# Altium integrated library Supernova Resistors.IntLib: 277 symbols (part 1 of 3)
Pins are listed as number, name and electrical type; pins without a type are passive.

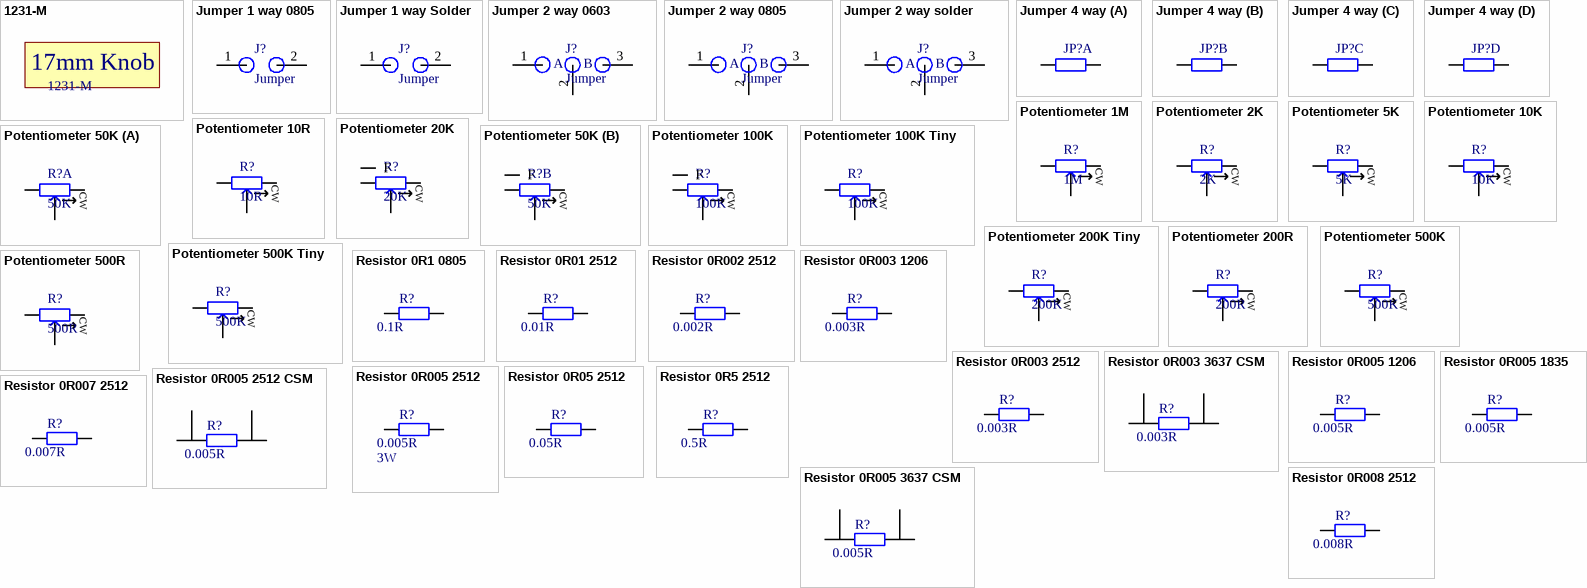
[diagram p0: symbols 1231-M to Resistor 0R008 2512]

## 1231-M
designator K?  (mechanical)
Knob for Potentiometer; Supplier 1: Digi-Key; Supplier Part Number 1: 1722-1253-ND; Supplier 2: Digi-Key; Supplier 3: Digi-Key; Supplier Part Number 2: 1722-1309-ND; Supplier Part Number 3: 1722-1249-ND
text: 17mm Knob

## Jumper 1 way 0805
designator J?, comment Jumper
Jumper 0805 1 pos; Supplier 1: Digi-Key; Supplier Part Number 1: P0.0ACT-ND; Supplier 2: Digi-Key; Supplier Part Number 2: 311-0.0CRCT-ND; Supplier 3: Digi-Key; Supplier Part Number 3: RMCF0805ZT0R00CT-ND
footprint 0805 RES 1 way jumper (Chip Resistor, 2-Leads, Body 2.05x1.25mm, IPC Medium Density)
footprint 0805 RES 1 way jumper - Placed (Chip Resistor, 2-Leads, Body 2.05x1.25mm, IPC Medium Density)
pins: 1 5, 2 5

## Jumper 1 way Solder
designator J?, comment Jumper  (no BOM)
Jumper Solder 1 pos
footprint Solder Jumper (Footprint not found)
pins: 1 5, 2 5

## Jumper 2 way 0603
designator J?, comment Jumper
Jumper 0603 2 pos; Supplier 1: Digi-Key; Supplier 2: Digi-Key; Supplier Part Number 1: 311-0.0LDCT-ND; Supplier Part Number 2: P0.0GCT-ND
footprint 0603 2 way jumper (Chip Resistor, 2-Leads, Body 1.60x0.85mm, IPC Medium Density)
footprint 0603 2 way jumper - A (Chip Resistor, 2-Leads, Body 1.60x0.85mm, IPC Medium Density)
footprint 0603 2 way jumper - B (Chip Resistor, 2-Leads, Body 1.60x0.85mm, IPC Medium Density)
pins: 1 5, 2 5, 3 5
text: A; B

## Jumper 2 way 0805
designator J?, comment Jumper
Jumper 0805 2 pos; Supplier 1: Digi-Key; Supplier Part Number 1: P0.0ACT-ND; Supplier 2: Digi-Key; Supplier Part Number 2: 311-0.0CRCT-ND
footprint 0805 RES 2 way jumper (Chip Resistor, 2-Leads, Body 2.05x1.25mm, IPC Medium Density)
footprint 0805 RES 2 way jumper - A (Chip Resistor, 2-Leads, Body 2.05x1.25mm, IPC Medium Density)
footprint 0805 RES 2 way jumper - B (Chip Resistor, 2-Leads, Body 2.05x1.25mm, IPC Medium Density)
pins: 1 5, 2 5, 3 5
text: A; B

## Jumper 2 way solder
designator J?, comment Jumper
Jumper 0603 2 pos; Supplier 1: Digi-Key; Supplier 2: Digi-Key; Supplier Part Number 1: 311-0.0LDCT-ND; Supplier Part Number 2: P0.0GCT-ND
footprint 0603 2 way jumper (Chip Resistor, 2-Leads, Body 1.60x0.85mm, IPC Medium Density)
footprint 0603 2 way jumper - A (Chip Resistor, 2-Leads, Body 1.60x0.85mm, IPC Medium Density)
footprint 0603 2 way jumper - B (Chip Resistor, 2-Leads, Body 1.60x0.85mm, IPC Medium Density)
pins: 1 5, 2 5, 3 5
text: A; B

## Jumper 4 way
designator JP?, comment 0R resistor Array of 4  (value not drawn)
Resistor 0R Array of 4; Supplier 1: Digi-Key; Supplier Part Number 1: CRA12E80.0CT-ND; Supplier 2: Mouser; Supplier Part Number 2: 71-CRA12E0830000ZTR
footprint 2012 4x RESISTOR ARRAY (Chip Array, Flat, 8-Leads, Pitch 1.27mm,  Body 5.12x3.05mm,  IPC Medium Density)
part A pins: 1, 8
part B pins: 2, 7
part C pins: 3, 6
part D pins: 4, 5

## Potentiometer 1M
designator R?, comment 1M
Potentiometer 1M Multi Turn RA; Mass_g: 0.2; Supplier 1: Mouser; Supplier 2: Digi-Key; Supplier 3: Newark; Supplier Part Number 1: 652-3224W-1-105E; Supplier Part Number 2: 3224W-1-105ECT-ND; Supplier Part Number 3: 78M8845
footprint 3224W (Footprint not found)
pins: 1, 2, 3
text: CW

## Potentiometer 2K
designator R?, comment 2K
Potentiometer 2K Single Turn; Supplier 1: Digi-Key; Supplier Part Number 1: PTV09A-4020F-B202-ND; Supplier 2: Mouser; Supplier Part Number 2: 652-PTV09A-4020FB202
footprint PTV09 (Footprint not found)
pins: 1, 2, 3
text: CW

## Potentiometer 5K
designator R?, comment 5K
Potentiometer 5K Multi Turn RA; Supplier 1: Digi-Key; Supplier 2: Mouser; Supplier Part Number 1: 804-1013-ND; Supplier Part Number 2: 71-1280G-K-5K
footprint 1280G
pins: 1, 2, 3
text: CW

## Potentiometer 10K
designator R?, comment 10K
Potentiometer 10K Multi Turn RA; Supplier 1: Digi-Key; Supplier Part Number 1: A105871-ND; Supplier 2: Digi-Key; Supplier Part Number 2: 3006P-103LF-ND
footprint 1280G
pins: 1, 2, 3
text: CW

## Potentiometer 10R
designator R?, comment 10R
Potentiometer 10R Multi Turn Small; Supplier 1: Digi-Key; Supplier 2: Mouser; Supplier Part Number 1: 3223W-1-200ECT-ND; Supplier Part Number 2: 652-3223W-1-200E
footprint 3223W (Footprint not found)
pins: 1, 2, 3
text: CW

## Potentiometer 20K
designator R?, comment 20K
Potentiometer 20K Single Turn; Supplier 1: Digi-Key; Supplier Part Number 1: PTV09A-4020F-B203-ND; Supplier 2: Mouser; Supplier Part Number 2: 652-PTV09A-4020FB203
footprint PTV09 (Footprint not found)
pins: 1, 2, 3, F
text: CW

## Potentiometer 50K
designator R?, comment 50K
Potentiometer 50K Dual Single Turn; Supplier 1: Digi-Key; Supplier Part Number 1: PTV112-4420A-B503-ND; Supplier 2: Mouser; Supplier Part Number 2: 652-PTV112-4420AB503
footprint PTV112-4 (Footprint not found)
part A pins: 1, 2, 6
part B pins: 3, 4, 5, F
part A text: CW
part B text: CW

## Potentiometer 100K
designator R?, comment 100K
Potentiometer 100K Single Turn; Supplier 1: Digi-Key; Supplier Part Number 1: PTV09A-4020F-B104-ND; Supplier 2: Mouser; Supplier Part Number 2: 652-PTV09A-4020FB104
footprint PTV09 (Footprint not found)
pins: 1, 2, 3, F
text: CW

## Potentiometer 100K Tiny
designator R?, comment 100K
Potentiometer 100K Single Turn; Supplier 1: Digi-Key; Supplier 2: Digi-Key; Supplier Part Number 1: TC33X-104ECT-ND; Supplier Part Number 2: TC33X-1-104ECT-ND
footprint TC33 (Footprint not found)
pins: 1, 2, 3
text: CW

## Potentiometer 200K Tiny
designator R?, comment 200K
Potentiometer 200K Multi Turn Small; Supplier 1: Digi-Key; Supplier 2: Mouser; Supplier Part Number 1: 3223W-1-204ECT-ND; Supplier Part Number 2: 652-3223W-1-204E
footprint 3223W (Footprint not found)
pins: 1, 2, 3
text: CW

## Potentiometer 200R
designator R?, comment 200R
Potentiometer 200R Single Turn; Supplier 1: Digi-Key; Supplier 2: Mouser; Supplier Part Number 1: 3314R-1-201ECT-ND; Supplier Part Number 2: 652-3314R-1-201E
footprint 3314R-1 (Footprint not found)
pins: 1, 2, 3
text: CW

## Potentiometer 500K
designator R?, comment 500K
Potentiometer 500K Multi Turn; Supplier 1: Digi-Key; Supplier 2: Digi-Key; Supplier Part Number 1: 987-1617-ND; Supplier Part Number 2: 987-1507-ND
footprint Model 67 (Footprint not found)
pins: 1, 2, 3
text: CW

## Potentiometer 500K Tiny
designator R?, comment 500K
Potentiometer 500K Multi Turn Small; Supplier 1: Digi-Key; Supplier 2: Arrow; Supplier Part Number 1: 3223W-1-504ECT-ND; Supplier Part Number 2: 3223W-1-504E
footprint 3223W (Footprint not found)
pins: 1, 2, 3
text: CW

## Potentiometer 500R
designator R?, comment 500R
Potentiometer 500R Multi Turn; Supplier 1: Digi-Key; Supplier Part Number 1: 987-1092-ND; Supplier 2: Digi-Key; Supplier Part Number 2: 3296W-1-501RLFCT-ND
footprint Model 67 (Footprint not found)
pins: 1, 2, 3
text: CW

## Resistor 0R1 0805
designator R?, comment 0.1R
Resistor 0R1 0805 0.25W 1%; Revision: Altium ETH 11-03.2008; Value: 0.1R; Supplier 1: Digi-Key; Supplier 2: Digi-Key; Supplier Part Number 1: 311-.10SCT-ND; Supplier Part Number 2: P19308CT-ND
footprint 0805 RES (Chip Resistor, 2-Leads, Body 2.05x1.25mm, IPC Medium Density)
pins: 1, 2
1 alternate drawing of the same symbol

## Resistor 0R01 2512
designator R?, comment 0.01R
Resistor 0.01R 2515 3W 1%; Revision: Altium ETH 11-03.2008; Value: 0.01R; Supplier 1: Digi-Key; Supplier Part Number 1: 696-1672-1-ND; Supplier 2: Digi-Key; Supplier Part Number 2: CRA2512-FZ-R010ELFCT-ND
footprint 2512 RES (Chip Resistor, 2-Leads, Body 6.30x3.20mm, IPC Medium Density)
simulation model Resistor
pins: 1, 2
1 alternate drawing of the same symbol

## Resistor 0R002 2512
designator R?, comment 0.002R
Resistor 0.002R 2512 3W 1%; Revision: Altium ETH 11-03.2008; Value: 0.002R; Supplier 1: Digi-Key; Supplier 2: Digi-Key; Supplier Part Number 1: CSS2H-2512K-2L00FCT-ND; Supplier Part Number 2: 696-1836-1-ND
footprint 2512 RES - BOURNS WIDE (copied thru PCB back to PcbLib)
simulation model Resistor
pins: 1, 2
1 alternate drawing of the same symbol

## Resistor 0R003 1206
designator R?, comment 0.003R
Resistor 0.003R 1206 1W 1%; Revision: Altium ETH 11-03.2008; Value: 0.003R; Supplier 1: Digi-Key; Supplier Part Number 1: CSNL1206FT3L00CT-ND; Supplier 2: Digi-Key; Supplier Part Number 2: RHM.003ALCT-ND
footprint 1206 RES (Chip Resistor, 2-Leads, Body 3.20x1.60mm, IPC Medium Density)
simulation model Resistor
pins: 1, 2
1 alternate drawing of the same symbol

## Resistor 0R003 2512
designator R?, comment 0.003R
Resistor 0.003R 2512 3W 1%; Revision: Altium ETH 11-03.2008; Value: 0.003R; Supplier 1: Digi-Key; Supplier Part Number 1: CRE2512-FZ-R003E-3CT-ND; Supplier 2: Digi-Key; Supplier Part Number 2: CSNL2512FT3L00CT-ND
footprint 2512 RES - BOURNS WIDE (copied thru PCB back to PcbLib)
simulation model Resistor
pins: 1, 2
1 alternate drawing of the same symbol

## Resistor 0R003 3637 CSM
designator R?, comment 0.003R
Resistor 0.003R 3637CSM 3W 0.1%; Revision: Altium ETH 11-03.2008; Value: 0.003R; Supplier 1: Digi-Key; Supplier 2: Digi-Key; Supplier Part Number 1: Y1488-.003CCT-ND; Supplier Part Number 2: Y14730R00300F9W-ND
footprint 3637 CSM Res (Footprint not found)
simulation model Resistor
pins: 1, 2, 3, 4

## Resistor 0R005 1206
designator R?, comment 0.005R
Resistor 0.005R 1206 1W 1%; Revision: Altium ETH 11-03.2008; Value: 0.005R; Supplier 1: Digi-Key; Supplier 2: Digi-Key; Supplier Part Number 1: MCS1632R005FERCT-ND; Supplier Part Number 2: CSNL1206FT5L00CT-ND
footprint 1206 RES (Chip Resistor, 2-Leads, Body 3.20x1.60mm, IPC Medium Density)
simulation model Resistor
pins: 1, 2
1 alternate drawing of the same symbol

## Resistor 0R005 1835
designator R?, comment 0.005R
Resistor 0.005R 1835 4W 0.5%; Revision: Altium ETH 11-03.2008; Value: 0.005R; Supplier 1: Digi-Key; Supplier 2: Mouser; Supplier Part Number 2: 588-FCSL90R005DER; Supplier Part Number 1: FCSL90R005DERCT-ND
footprint 1835 RES (Chip Resistor, 2-Leads, Body 4.50x8.90mm, IPC Medium Density)
simulation model Resistor
pins: 1, 2
1 alternate drawing of the same symbol

## Resistor 0R005 2512
designator R?, comment 0.005R  Power: 3W
Resistor 0.005R 2512 3W 1%; Mass_g: 0.0405; Revision: Altium ETH 11-03.2008; Value: 0.005R; Supplier 1: Digi-Key; Supplier Part Number 1: 1712-TLRP3A30CR005FTECT-ND; Supplier 2: Mouser; Supplier Part Number 2: 279-TLRP3A30CR005FTE
footprint 2512 RES - TE
simulation model Resistor
pins: 1, 2
1 alternate drawing of the same symbol

## Resistor 0R05 2512
designator R?, comment 0.05R
Resistor 0.05R 2515 3W 1%; Revision: Altium ETH 11-03.2008; Value: 0.05R; Supplier 1: Digi-Key; Supplier Part Number 1: CRA2512-FZ-R050ELFCT-ND; Supplier 2: Digi-Key; Supplier Part Number 2: 1712-TLRP3A30CR050FTECT-ND
footprint 2512 RES (Chip Resistor, 2-Leads, Body 6.30x3.20mm, IPC Medium Density)
simulation model Resistor
pins: 1, 2
1 alternate drawing of the same symbol

## Resistor 0R5 2512
designator R?, comment 0.5R
Resistor 0.5R 2512 1W 1%; Revision: Altium ETH 11-03.2008; Value: 0.5R; Supplier 1: Digi-Key; Supplier 2: Digi-Key; Supplier Part Number 1: WSLT-.5CT-ND; Supplier Part Number 2: WSLG-.50CT-ND
footprint 2512 RES (Chip Resistor, 2-Leads, Body 6.30x3.20mm, IPC Medium Density)
simulation model Resistor
pins: 1, 2
1 alternate drawing of the same symbol

## Resistor 0R005 2512 CSM
designator R?, comment 0.005R
Resistor 0.005R 2512CSM 1W 0.1%; Revision: Altium ETH 11-03.2008; Value: 0.005R; Supplier 1: Digi-Key; Supplier 2: Mouser; Supplier Part Number 1: 804-1043-1-ND; Supplier Part Number 2: 71-CSM25120R0050BST
footprint 2512 CSM RES
simulation model Resistor
pins: 1, 2, 3, 4

## Resistor 0R005 3637 CSM
designator R?, comment 0.005R
Resistor 0.005R 3637CSM 3W 0.1%; Revision: Altium ETH 11-03.2008; Value: 0.005R; Supplier 1: Digi-Key; Supplier Part Number 1: Y1488-.005BCT-ND; Supplier 2: Digi-Key; Supplier 3: Mouser; Supplier Part Number 2: Y1473-.005ACT-ND; Supplier Part Number 3: 71-CSM36370R0050BST
footprint 3637 CSM Res (Footprint not found)
simulation model Resistor
pins: 1, 2, 3, 4

## Resistor 0R007 2512
designator R?, comment 0.007R
Resistor 0.007R 2512 3W 1%; Revision: Altium ETH 11-03.2008; Value: 0.007R; Supplier 1: Digi-Key; Supplier 2: Mouser; Supplier Part Number 1: CRE2512-FZ-R007E-3CT-ND; Supplier Part Number 2: 652-CRE2512FZR007E-3
footprint 2512 RES - BOURNS WIDE (copied thru PCB back to PcbLib)
simulation model Resistor
pins: 1, 2
1 alternate drawing of the same symbol

## Resistor 0R008 2512
designator R?, comment 0.008R
Resistor 0.008R 2512 3W 1%; Revision: Altium ETH 11-03.2008; Value: 0.008R; Supplier 1: Digi-Key; Supplier 2: Digi-Key; Supplier Part Number 1: 2037-SCMM2512S3-R008FCT-ND; Supplier Part Number 2: 541-330FCT-ND
footprint 2512 RES - BOURNS WIDE (copied thru PCB back to PcbLib)
simulation model Resistor
pins: 1, 2
1 alternate drawing of the same symbol

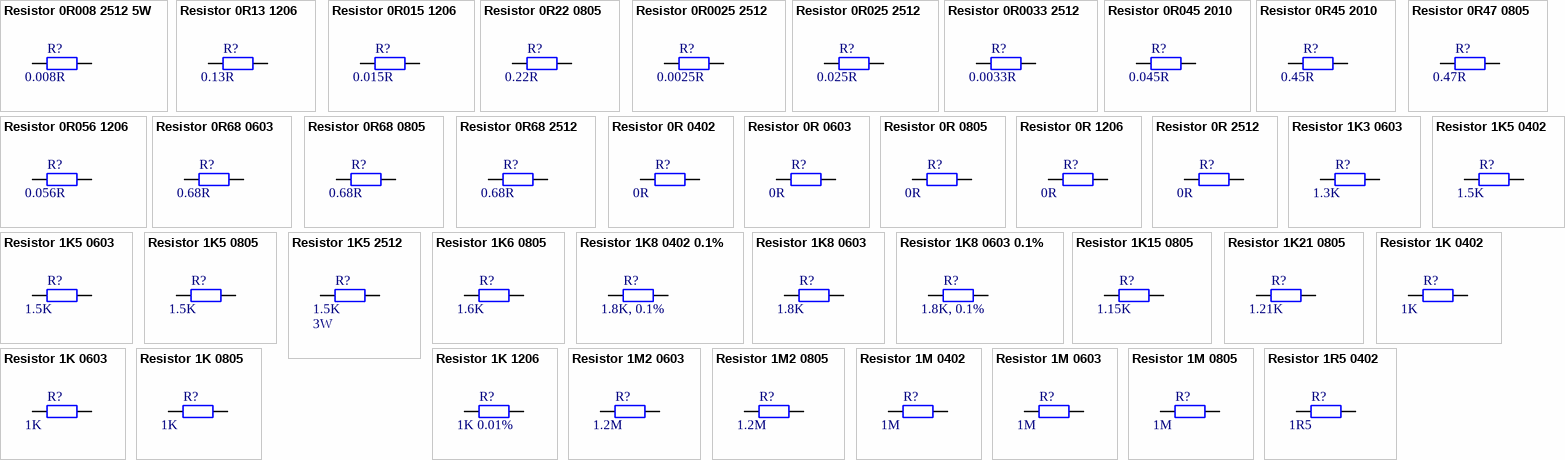
[diagram p1: symbols Resistor 0R008 2512 5W to Resistor 1R5 0402]

## Resistor 0R008 2512 5W
designator R?, comment 0.008R
Resistor 0.008R 2512 5W 1%; Mass_g: 0.0912; Revision: Altium ETH 11-03.2008; Value: 0.008R; Supplier 1: Digi-Key; Supplier Part Number 1: 2019-TLRH3APTTE8L00FCT-ND; Supplier 2: Mouser; Supplier Part Number 2: 660-TLRH3APTTE8L00F
footprint 2512 RES - BOURNS WIDE (copied thru PCB back to PcbLib)
simulation model Resistor
pins: 1, 2
1 alternate drawing of the same symbol

## Resistor 0R13 1206
designator R?, comment 0.13R
Resistor 0.13R 1206 0.5W 1%; Revision: Altium ETH 11-03.2008; Value: 0.13R; Supplier 1: Digi-Key; Supplier Part Number 1: CSR1206FTR130CT-ND; Supplier 2: Digi-Key; Supplier Part Number 2: RL16R.13FCT-ND
footprint 1206 RES (Chip Resistor, 2-Leads, Body 3.20x1.60mm, IPC Medium Density)
simulation model Resistor
pins: 1, 2
1 alternate drawing of the same symbol

## Resistor 0R015 1206
designator R?, comment 0.015R
Resistor 0.015R 1206 1W 1%; Revision: Altium ETH 11-03.2008; Value: 0.015R; Supplier 1: Digi-Key; Supplier 2: Digi-Key; Supplier 3: Digi-Key; Supplier Part Number 1: LVT12R0150FERCT-ND; Supplier Part Number 2: P0.015BVCT-ND; Supplier Part Number 3: WSLP-.015CT-ND
footprint 1206 RES (Chip Resistor, 2-Leads, Body 3.20x1.60mm, IPC Medium Density)
simulation model Resistor
pins: 1, 2
1 alternate drawing of the same symbol

## Resistor 0R22 0805
designator R?, comment 0.22R
Resistor 0.22R 0805 0.5W 1%; Revision: Altium ETH 11-03.2008; Value: 0.22R; Supplier 1: Digi-Key; Supplier Part Number 1: P19292CT-ND; Supplier 2: Digi-Key; Supplier Part Number 2: 311-0.22LUCT-ND
footprint 0805 RES (Chip Resistor, 2-Leads, Body 2.05x1.25mm, IPC Medium Density)
simulation model Resistor
pins: 1, 2
1 alternate drawing of the same symbol

## Resistor 0R0025 2512
designator R?, comment 0.0025R
Resistor 0.0025R 2512 2W 1%; Revision: Altium ETH 11-03.2008; Value: 0.0025R; Supplier 1: Digi-Key; Supplier 2: Digi-Key; Supplier Part Number 1: 541-10116-1-ND; Supplier Part Number 2: 541-10117-1-ND
footprint 2512 RES - VISHAY WIDE (Chip Resistor, 2-Leads, Body 6.35x3.15mm, IPC Medium Density)
simulation model Resistor
pins: 1, 2
1 alternate drawing of the same symbol

## Resistor 0R025 2512
designator R?, comment 0.025R
Resistor 0.025R 2515 3W 1%; Revision: Altium ETH 11-03.2008; Value: 0.025R; Supplier 1: Digi-Key; Supplier Part Number 1: CRA2512-FZ-R025ELFCT-ND; Supplier 2: Digi-Key; Supplier Part Number 2: 1712-TLRP3A30CR025FTECT-ND
footprint 2512 RES (Chip Resistor, 2-Leads, Body 6.30x3.20mm, IPC Medium Density)
simulation model Resistor
pins: 1, 2
1 alternate drawing of the same symbol

## Resistor 0R0033 2512
designator R?, comment 0.0033R
Resistor 0.0033R 2512 3W 1%; Revision: Altium ETH 11-03.2008; Value: 0.0033R; Supplier 1: Digi-Key; Supplier 2: Mouser; Supplier Part Number 1: 541-10151-1-ND; Supplier Part Number 2: 71-WSLP25123L300FEA
footprint 2512 RES - BOURNS WIDE (copied thru PCB back to PcbLib)
simulation model Resistor
pins: 1, 2
1 alternate drawing of the same symbol

## Resistor 0R045 2010
designator R?, comment 0.045R
Resistor 0.045R 2010 1W 1%; Revision: Altium ETH 11-03.2008; Value: 0.045R; Supplier 1: Digi-Key; Supplier Part Number 1: 541-10328-1-ND
footprint 2010 RES (Chip Resistor, 2-Leads, Body 5.08x2.54mm, IPC Medium Density)
simulation model Resistor
pins: 1, 2
1 alternate drawing of the same symbol

## Resistor 0R45 2010
designator R?, comment 0.45R
Resistor 0.45R 2010 1W 1%; Revision: Altium ETH 11-03.2008; Value: 0.45R; Supplier 1: Digi-Key; Supplier 2: Mouser; Supplier Part Number 1: WSLTA-.450CT-ND; Supplier Part Number 2: 71-WSLT2010R4500FEB1
footprint 2010 RES (Chip Resistor, 2-Leads, Body 5.08x2.54mm, IPC Medium Density)
simulation model Resistor
pins: 1, 2
1 alternate drawing of the same symbol

## Resistor 0R47 0805
designator R?, comment 0.47R
Resistor 0.47R 0805 0.5W 1%; Revision: Altium ETH 11-03.2008; Value: 0.47R; Supplier 1: Digi-Key; Supplier Part Number 1: 408-1564-1-ND; Supplier 2: Mouser; Supplier Part Number 2: 754-KRL1220EMR470FT5; Supplier 3: Digi-Key; Supplier Part Number 3: P19252DKR-ND
footprint 0805 RES (Chip Resistor, 2-Leads, Body 2.05x1.25mm, IPC Medium Density)
simulation model Resistor
pins: 1, 2
1 alternate drawing of the same symbol

## Resistor 0R056 1206
designator R?, comment 0.056R
Resistor 0.056R 1206 1W 1%; Revision: Altium ETH 11-03.2008; Value: 0.056R; Supplier 1: Digi-Key; Supplier Part Number 1: 541-10319-1-ND; Supplier 2: Digi-Key; Supplier Part Number 2: 408-1579-1-ND
footprint 1206 RES (Chip Resistor, 2-Leads, Body 3.20x1.60mm, IPC Medium Density)
simulation model Resistor
pins: 1, 2
1 alternate drawing of the same symbol

## Resistor 0R68 0603
designator R?, comment 0.68R
Resistor 0.68R 0603 0.1W 1%; Mass_g: 0.002; Revision: Altium ETH 11-03.2008; Value: 0.68R; Supplier 1: Digi-Key; Supplier Part Number 1: 311-.68QCT-ND; Supplier 2: Digi-Key; Supplier Part Number 2: P.68AJCT-ND
footprint 0603 RES (Chip Resistor, 2-Leads, Body 1.60x0.85mm, IPC Medium Density)
simulation model Resistor
footprint 0603 RES - DNP (Chip Resistor, 2-Leads, Body 1.60x0.85mm, IPC Medium Density)
pins: 1, 2
1 alternate drawing of the same symbol

## Resistor 0R68 0805
designator R?, comment 0.68R
Resistor 0.68R 0805 0.125W 1%; Revision: Altium ETH 11-03.2008; Value: 0.68R; Supplier 1: Digi-Key; Supplier Part Number 1: P.68DCT-ND; Supplier 2: Digi-Key; Supplier Part Number 2: P16002CT-ND
footprint 0805 RES (Chip Resistor, 2-Leads, Body 2.05x1.25mm, IPC Medium Density)
simulation model Resistor
pins: 1, 2
1 alternate drawing of the same symbol

## Resistor 0R68 2512
designator R?, comment 0.68R
Resistor 0.68R 2512 2W 1%; Revision: Altium ETH 11-03.2008; Value: 0.68R; Supplier 1: Digi-Key; Supplier Part Number 1: RCWE.68HCT-ND; Supplier 2: Digi-Key; Supplier Part Number 2: CSRN2512FKR680CT-ND
footprint 2512 RES (Chip Resistor, 2-Leads, Body 6.30x3.20mm, IPC Medium Density)
simulation model Resistor
pins: 1, 2
1 alternate drawing of the same symbol

## Resistor 0R 0402
designator R?, comment 0R
Resistor 0R 0402 0.063W; Revision: Altium ETH 11-03.2008; Value: 0R; Supplier 1: Digi-Key; Supplier Part Number 1: 311-0.0LBCT-ND; Supplier 2: Digi-Key; Supplier Part Number 2: 541-0.0YBCT-ND
footprint 0402 RES (Chip Capacitor, 2-Leads, Body 1.00x0.50mm, IPC Medium Density)
simulation model Resistor
pins: 1, 2
1 alternate drawing of the same symbol

## Resistor 0R 0603
designator R?, comment 0R
Resistor 0R 0603 0.1W; Mass_g: 0.002; Value: 0R; Supplier 1: Digi-Key; Supplier Part Number 1: P0.0GCT-ND; Supplier 2: Digi-Key; Supplier Part Number 2: 311-0.0LDCT-ND; Supplier 3: Digi-Key; Supplier Part Number 3: 541-0.0SBCT-ND; Supplier 4: Digi-Key; Supplier Part Number 4: 13-AF0603JR-070RLCT-ND
footprint 0603 RES (Chip Resistor, 2-Leads, Body 1.60x0.85mm, IPC Medium Density)
simulation model Resistor
footprint 0603 RES - DNP (Chip Resistor, 2-Leads, Body 1.60x0.85mm, IPC Medium Density)
pins: 1, 2
1 alternate drawing of the same symbol

## Resistor 0R 0805
designator R?, comment 0R
Resistor 0R 0805 0.125W; Revision: Altium ETH 11-03.2008; Value: 0R; Supplier 1: Digi-Key; Supplier Part Number 1: P0.0ACT-ND; Supplier 2: Digi-Key; Supplier Part Number 2: 311-0.0CRCT-ND
footprint 0805 RES (Chip Resistor, 2-Leads, Body 2.05x1.25mm, IPC Medium Density)
footprint 0805 RES - DNP (Chip Resistor, 2-Leads, Body 2.05x1.25mm, IPC Medium Density)
pins: 1, 2
1 alternate drawing of the same symbol

## Resistor 0R 1206
designator R?, comment 0R
Resistor 0R 1206 0.75W; Mass_g: 0.0162; Revision: Altium ETH 11-03.2008; Value: 0R; Supplier 1: Digi-Key; Supplier Part Number 1: 541-0.0UBCT-ND; Supplier 2: Digi-Key; Supplier Part Number 2: HCJ1206ZT0R00CT-ND
footprint 1206 RES (Chip Resistor, 2-Leads, Body 3.20x1.60mm, IPC Medium Density)
simulation model Resistor
footprint 1206 RES - DNP (Chip Resistor, 2-Leads, Body 3.20x1.60mm, IPC Medium Density)
pins: 1, 2
1 alternate drawing of the same symbol

## Resistor 0R 2512
designator R?, comment 0R
Resistor 0R 2512 1W; Revision: Altium ETH 11-03.2008; Value: 0R; Supplier 1: Digi-Key; Supplier Part Number 1: YAG1232CT-ND; Supplier 2: Digi-Key; Supplier 3: Digi-Key; Supplier Part Number 2: RMCF2512ZT0R00CT-ND; Supplier Part Number 3: 1276-6000-1-ND
footprint 2512 RES (Chip Resistor, 2-Leads, Body 6.30x3.20mm, IPC Medium Density)
simulation model Resistor
footprint 2512 RES - BOURNS WIDE (copied thru PCB back to PcbLib)
pins: 1, 2
1 alternate drawing of the same symbol

## Resistor 1K3 0603
designator R?, comment 1.3K
Resistor 1.3K 0603 0.1W 1%; Revision: Altium ETH 11-03.2008; Value: 1.3K; Supplier 1: Digi-Key; Supplier Part Number 1: 311-1.30KHRCT-ND; Supplier 2: Digi-Key; Supplier Part Number 2: P1.30KHCT-ND; Supplier 3: Digi-Key; Supplier Part Number 3: RMCF0603FT1K30CT-ND
footprint 0603 RES (Chip Resistor, 2-Leads, Body 1.60x0.85mm, IPC Medium Density)
simulation model Resistor
pins: 1, 2
1 alternate drawing of the same symbol

## Resistor 1K5 0402
designator R?, comment 1.5K
Resistor 1.5K 0402 0.063W 1%; Revision: Altium ETH 11-03.2008; Value: 1.5K; Supplier 1: Digi-Key; Supplier Part Number 1: 311-1.50KLRCT-ND; Supplier 2: Digi-Key; Supplier Part Number 2: P1.50KLCT-ND; Supplier 3: Digi-Key; Supplier Part Number 3: A129629CT-ND
footprint 0402 RES (Chip Capacitor, 2-Leads, Body 1.00x0.50mm, IPC Medium Density)
simulation model Resistor
pins: 1, 2
1 alternate drawing of the same symbol

## Resistor 1K5 0603
designator R?, comment 1.5K
Resistor 1.5K 0603 0.1W 1%; Revision: Altium ETH 11-03.2008; Value: 1.5K; Supplier 1: Digi-Key; Supplier Part Number 1: P1.50KHCT-ND; Supplier 2: Digi-Key; Supplier Part Number 2: 311-1.50KHRCT-ND
footprint 0603 RES (Chip Resistor, 2-Leads, Body 1.60x0.85mm, IPC Medium Density)
simulation model Resistor
pins: 1, 2
1 alternate drawing of the same symbol

## Resistor 1K5 0805
designator R?, comment 1.5K
Resistor 1.5K 0805 0.125W 1%; Revision: Altium ETH 11-03.2008; Value: 1.5K; Supplier 1: Digi-Key; Supplier Part Number 1: P1.50KCCT-ND; Supplier 2: Digi-Key; Supplier Part Number 2: 311-1.50KCRCT-ND
footprint 0805 RES (Chip Resistor, 2-Leads, Body 2.05x1.25mm, IPC Medium Density)
simulation model Resistor
pins: 1, 2
1 alternate drawing of the same symbol

## Resistor 1K5 2512
designator R?, comment 1.5K  Power: 3W
Resistor 1.5K 2512 3W 5%; Mass_g: 0.0405; Revision: Altium ETH 11-03.2008; Value: 1.5K; Supplier 1: Digi-Key; Supplier Part Number 1: A121167CT-ND; Supplier 2: Digi-Key; Supplier Part Number 2: A121168CT-ND
simulation model Resistor
footprint 2512 RES - TE
pins: 1, 2
1 alternate drawing of the same symbol

## Resistor 1K6 0805
designator R?, comment 1.6K
Resistor 1.6K 0805 0.125W 1%; Revision: Altium ETH 11-03.2008; Value: 1.6K; Supplier 1: Digi-Key; Supplier Part Number 1: 311-1.60KCRCT-ND; Supplier 2: Digi-Key; Supplier Part Number 2: P1.60KCCT-ND
footprint 0805 RES (Chip Resistor, 2-Leads, Body 2.05x1.25mm, IPC Medium Density)
simulation model Resistor
pins: 1, 2
1 alternate drawing of the same symbol

## Resistor 1K8 0402 0.1%
designator R?, comment 1.8K, 0.1%
Resistor 1.8K 0402 0.063W 1%; Revision: Altium ETH 11-03.2008; Value: 1.8K; Supplier 1: Digi-Key; Supplier Part Number 1: P1.8KDCCT-ND; Supplier 2: Digi-Key; Supplier Part Number 2: 541-2096-1-ND
footprint 0402 RES (Chip Capacitor, 2-Leads, Body 1.00x0.50mm, IPC Medium Density)
simulation model Resistor
pins: 1, 2
1 alternate drawing of the same symbol

## Resistor 1K8 0603
designator R?, comment 1.8K
Resistor 1.6K 0603 0.25W 1%; Revision: Altium ETH 11-03.2008; Value: 1.8K; Supplier 1: Digi-Key; Supplier 2: Digi-Key; Supplier Part Number 1: P1.80KHCT-ND; Supplier Part Number 2: 311-1.80KHRCT-ND
footprint 0603 RES (Chip Resistor, 2-Leads, Body 1.60x0.85mm, IPC Medium Density)
simulation model Resistor
pins: 1, 2
1 alternate drawing of the same symbol

## Resistor 1K8 0603 0.1%
designator R?, comment 1.8K, 0.1%
Resistor 1.8K 0603 0.1W 0.1%; Revision: Altium ETH 11-03.2008; Value: 1.8K; Supplier 1: Digi-Key; Supplier Part Number 1: YAG1575CT-ND; Supplier 2: Digi-Key; Supplier Part Number 2: P1.8KAYCT-ND
footprint 0603 RES (Chip Resistor, 2-Leads, Body 1.60x0.85mm, IPC Medium Density)
simulation model Resistor
pins: 1, 2
1 alternate drawing of the same symbol

## Resistor 1K15 0805
designator R?, comment 1.15K
Resistor 1.15K 0805 0.125W 1%; Revision: Altium ETH 11-03.2008; Value: 1.15K; Supplier 1: Digi-Key; Supplier 2: Digi-Key; Supplier Part Number 1: P1.15KCCT-ND; Supplier Part Number 2: RMCF0805FT1K15CT-ND
footprint 0805 RES (Chip Resistor, 2-Leads, Body 2.05x1.25mm, IPC Medium Density)
simulation model Resistor
pins: 1, 2
1 alternate drawing of the same symbol

## Resistor 1K21 0805
designator R?, comment 1.21K
Resistor 1.21K 0805 0.125W 0.1%; Revision: Altium ETH 11-03.2008; Value: 1.21K; Supplier 1: Digi-Key; Supplier 2: Digi-Key; Supplier Part Number 1: YAG4845CT-ND; Supplier Part Number 2: P1.21KDADKR-ND
footprint 0805 RES (Chip Resistor, 2-Leads, Body 2.05x1.25mm, IPC Medium Density)
simulation model Resistor
pins: 1, 2
1 alternate drawing of the same symbol

## Resistor 1K 0402
designator R?, comment 1K
Resistor 1K 0402 0.063W 1%; Revision: Altium ETH 11-03.2008; Value: 1K; Supplier 1: Digi-Key; Supplier Part Number 1: 311-1.00KLRCT-ND; Supplier 2: Digi-Key; Supplier Part Number 2: P1.00KLCT-ND; Supplier 3: Digi-Key; Supplier Part Number 3: 2019-RK73H1ERTTP1001FCT-ND
footprint 0402 RES (Chip Capacitor, 2-Leads, Body 1.00x0.50mm, IPC Medium Density)
simulation model Resistor
pins: 1, 2
1 alternate drawing of the same symbol

## Resistor 1K 0603
designator R?, comment 1K
Resistor 1K 0603 0.1W 1%; Mass_g: 0.002; Revision: Altium ETH 11-03.2008; Value: 1K; Supplier 1: Digi-Key; Supplier Part Number 1: P1.00KHCT-ND; Supplier 2: Digi-Key; Supplier Part Number 2: 311-1.00KHRCT-ND; Supplier 3: Digi-Key; Supplier Part Number 3: P1.0KBYCT-ND; Supplier 4: Digi-Key; Supplier Part Number 4: 541-2788-1-ND
footprint 0603 RES (Chip Resistor, 2-Leads, Body 1.60x0.85mm, IPC Medium Density)
simulation model Resistor
footprint 0603 RES - DNP (Chip Resistor, 2-Leads, Body 1.60x0.85mm, IPC Medium Density)
pins: 1, 2
1 alternate drawing of the same symbol

## Resistor 1K 0805
designator R?, comment 1K
Resistor 1K 0805 0.125W 1%; Revision: Altium ETH 11-03.2008; Value: 1K; Supplier 1: Digi-Key; Supplier Part Number 1: P1.00KCCT-ND; Supplier 2: Digi-Key; Supplier Part Number 2: 311-1.00KCRCT-ND
footprint 0805 RES (Chip Resistor, 2-Leads, Body 2.05x1.25mm, IPC Medium Density)
simulation model Resistor
footprint 0805 RES - DNP (Chip Resistor, 2-Leads, Body 2.05x1.25mm, IPC Medium Density)
pins: 1, 2
1 alternate drawing of the same symbol

## Resistor 1K 1206
designator R?, comment 1K 0.01%
Resistor 1K 1206 0.25W 0.01%; Revision: Altium ETH 11-03.2008; Value: 1K 0.01%; Supplier 1: Digi-Key; Supplier Part Number 1: Y1630-1.00KBCT-ND; Supplier 2: Digi-Key; Supplier 3: Digi-Key; Supplier Part Number 2: Y1625-1KCT-ND; Supplier Part Number 3: 804-1223-1-ND
footprint 1206 RES (Chip Resistor, 2-Leads, Body 3.20x1.60mm, IPC Medium Density)
simulation model Resistor
pins: 1, 2
1 alternate drawing of the same symbol

## Resistor 1M2 0603
designator R?, comment 1.2M
Resistor 1.2M 0603 0.1W 1%; Value: 1.2Meg; Revision: Altium ETH 11-03.2008; Supplier 1: Digi-Key; Supplier Part Number 1: P1.20MHDKR-ND; Supplier 2: Digi-Key; Supplier Part Number 2: 311-1.20MHRCT-ND
footprint 0603 RES (Chip Resistor, 2-Leads, Body 1.60x0.85mm, IPC Medium Density)
simulation model Resistor
pins: 1, 2
1 alternate drawing of the same symbol

## Resistor 1M2 0805
designator R?, comment 1.2M
Resistor 1.2M 0805 0.125W 1%; Value: 1.2Meg; Revision: Altium ETH 11-03.2008; Supplier 1: Digi-Key; Supplier Part Number 1: P1.20MCCT-ND; Supplier 2: Digi-Key; Supplier Part Number 2: 311-1.20MCRCT-ND
footprint 0805 RES (Chip Resistor, 2-Leads, Body 2.05x1.25mm, IPC Medium Density)
simulation model Resistor
pins: 1, 2
1 alternate drawing of the same symbol

## Resistor 1M 0402
designator R?, comment 1M
Resistor 1M 0402 0.063W 1%; Revision: Altium ETH 11-03.2008; Value: 1M; Supplier 1: Digi-Key; Supplier Part Number 1: 311-1.00MLRCT-ND; Supplier 2: Digi-Key; Supplier Part Number 2: P1.00MLCT-ND; Supplier 3: Digi-Key; Supplier Part Number 3: A129663CT-ND
footprint 0402 RES (Chip Capacitor, 2-Leads, Body 1.00x0.50mm, IPC Medium Density)
simulation model Resistor
pins: 1, 2
1 alternate drawing of the same symbol

## Resistor 1M 0603
designator R?, comment 1M
Resistor 1M 0603 0.125W 1%; Value: 1Meg; Mass_g: 0.002; Revision: Altium ETH 11-03.2008; Supplier 1: Digi-Key; Supplier Part Number 1: MCT0603-1.00M-CFCT-ND; Supplier 2: Digi-Key; Supplier Part Number 2: P1.00MHCT-ND
footprint 0603 RES (Chip Resistor, 2-Leads, Body 1.60x0.85mm, IPC Medium Density)
simulation model Resistor
pins: 1, 2
1 alternate drawing of the same symbol

## Resistor 1M 0805
designator R?, comment 1M
Resistor 1M 0805 0.125W 1%; Mass_g: 0.0055; Revision: Altium ETH 11-03.2008; Value: 1M; Supplier 1: Digi-Key; Supplier Part Number 1: 311-1.00MCRCT-ND; Supplier 2: Digi-Key; Supplier Part Number 2: P16921CT-ND
footprint 0805 RES (Chip Resistor, 2-Leads, Body 2.05x1.25mm, IPC Medium Density)
simulation model Resistor
pins: 1, 2
1 alternate drawing of the same symbol

## Resistor 1R5 0402
designator R?, comment 1R5
Resistor 1R5 0402 0.25W 1%; Mass_g: 0.00065; Revision: Altium ETH 11-03.2008; Value: 1R5; Supplier 1: Digi-Key; Supplier Part Number 1: 2019-SG73P1EWTTP1R50FCT-ND; Supplier 2: Mouser; Supplier Part Number 2: 660-SG73P1EWTTP1R50F
footprint 0402 RES (Chip Capacitor, 2-Leads, Body 1.00x0.50mm, IPC Medium Density)
simulation model Resistor
pins: 1, 2
1 alternate drawing of the same symbol

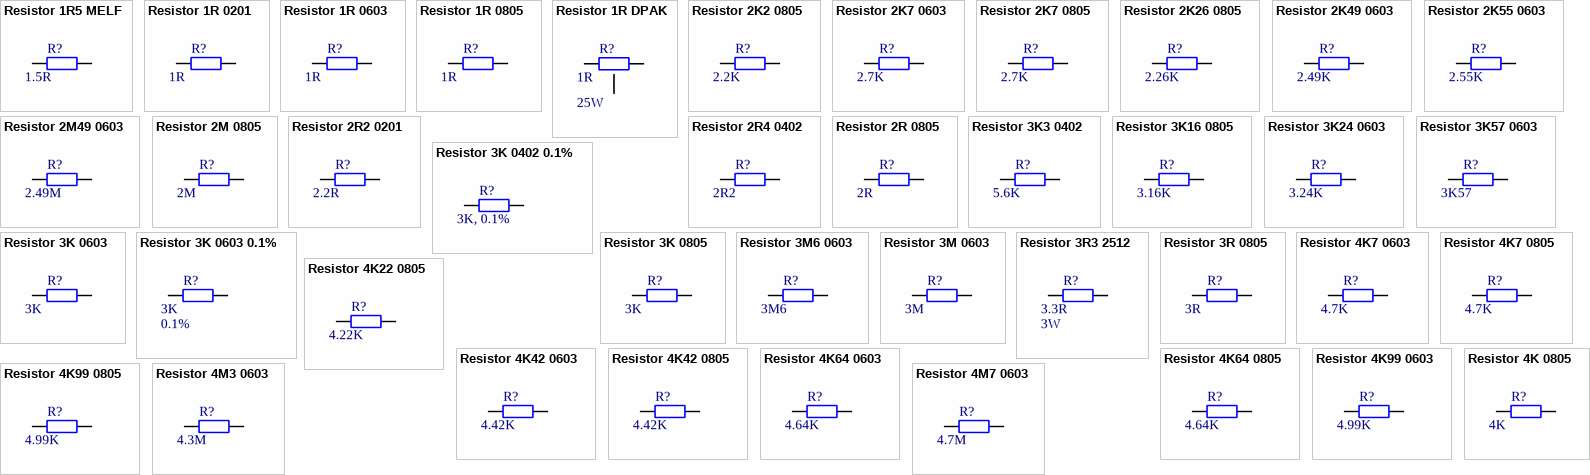
[diagram p2: symbols Resistor 1R5 MELF to Resistor 4M7 0603]

## Resistor 1R5 MELF
designator R?, comment 1.5R
Resistor 1.5R MELF 0.4W 1%; Revision: Altium ETH 11-03.2008; Value: 1.5R; Supplier 1: Digi-Key; Supplier 2: Digi-Key; Supplier Part Number 1: 749-1169-1-ND; Supplier Part Number 2: MLFA25FTC1R50CT-ND
footprint MELF 0204 (MELF Resistor, 2-Leads, Body 3.50x1.40mm, IPC Medium Density)
simulation model Resistor
pins: 1, 2
1 alternate drawing of the same symbol

## Resistor 1R 0201
designator R?, comment 1R
Resistor 1R 0201 0.05W 1%; Revision: Altium ETH 11-03.2008; Value: 1R; Supplier 1: Digi-Key; Supplier 2: Digi-Key; Supplier Part Number 1: YAG3368CT-ND; Supplier Part Number 2: RMCF0201FT1R00CT-ND
footprint 0201 RES (Chip Resistor, 2-Leads, Body 0.60x0.30mm, IPC Medium Density)
simulation model Resistor
pins: 1, 2
1 alternate drawing of the same symbol

## Resistor 1R 0603
designator R?, comment 1R
Resistor 1R 0603 0.1W 1%; Revision: Altium ETH 11-03.2008; Value: 1R; Supplier 1: Digi-Key; Supplier Part Number 1: P1.0AJCT-ND; Supplier 2: Digi-Key; Supplier Part Number 2: YAG3574CT-ND
footprint 0603 RES (Chip Resistor, 2-Leads, Body 1.60x0.85mm, IPC Medium Density)
simulation model Resistor
pins: 1, 2
1 alternate drawing of the same symbol

## Resistor 1R 0805
designator R?, comment 1R
Resistor 1R 0805 0.25W 1%; Revision: Altium ETH 11-03.2008; Value: 1R; Supplier 1: Digi-Key; Supplier Part Number 1: P1.0BHCT-ND; Supplier 2: Digi-Key; Supplier Part Number 2: 311-1.00CRCT-ND
footprint 0805 RES (Chip Resistor, 2-Leads, Body 2.05x1.25mm, IPC Medium Density)
simulation model Resistor
pins: 1, 2
1 alternate drawing of the same symbol

## Resistor 1R DPAK
designator R?, comment 1R  Power: 25W
Resistor 1R DPAK 25W 5%; Revision: Altium ETH 11-03.2008; Value: 1R; Supplier 1: Digi-Key; Supplier Part Number 1: PWR163S-25-1R00J-ND; Supplier 2: Digi-Key; Supplier Part Number 2: 696-1274-1-ND
footprint DPAK - Bourns (D2-PAK/TO-263-AB; 3 Leads (1 Cropped); Body 15.5 (inc. leads) x 10.5 mm (LxW max))
simulation model Resistor
pins: 1, 2, 3

## Resistor 2K2 0805
designator R?, comment 2.2K
Resistor 2.2K 0805 0.125W 1%; Revision: Altium ETH 11-03.2008; Value: 2.2K; Supplier 1: Digi-Key; Supplier Part Number 1: 311-2.20KCRCT-ND; Supplier 2: Digi-Key; Supplier Part Number 2: P2.20KCCT-ND; Supplier 3: Digi-Key; Supplier Part Number 3: A129753CT-ND
footprint 0805 RES (Chip Resistor, 2-Leads, Body 2.05x1.25mm, IPC Medium Density)
simulation model Resistor
pins: 1, 2
1 alternate drawing of the same symbol

## Resistor 2K7 0603
designator R?, comment 2.7K
Resistor 2.7K 0603 0.1W 0.1%; Revision: Altium ETH 11-03.2008; Value: 2.7K; Supplier 1: Digi-Key; Supplier Part Number 1: P2.7KDBCT-ND; Supplier 2: Digi-Key; Supplier Part Number 2: P20019CT-ND; Supplier 3: Digi-Key; Supplier Part Number 3: A129693CT-ND; Supplier 4: Digi-Key; Supplier Part Number 4: YAG3589CT-ND
footprint 0603 RES (Chip Resistor, 2-Leads, Body 1.60x0.85mm, IPC Medium Density)
simulation model Resistor
pins: 1, 2
1 alternate drawing of the same symbol

## Resistor 2K7 0805
designator R?, comment 2.7K
Resistor 2.7K 0805 0.125W 1%; Revision: Altium ETH 11-03.2008; Value: 2.7K; Supplier 1: Digi-Key; Supplier 2: Digi-Key; Supplier Part Number 2: P2.70KCCT-ND; Supplier Part Number 1: 311-2.70KCRCT-ND
footprint 0805 RES (Chip Resistor, 2-Leads, Body 2.05x1.25mm, IPC Medium Density)
simulation model Resistor
pins: 1, 2
1 alternate drawing of the same symbol

## Resistor 2K26 0805
designator R?, comment 2.26K
Resistor 2.26K 0805 0.125W 0.1%; Revision: Altium ETH 11-03.2008; Value: 2.26K; Supplier 1: Digi-Key; Supplier Part Number 1: P2.26KDACT-ND; Supplier 2: Digi-Key; Supplier Part Number 2: P20632CT-ND
footprint 0805 RES (Chip Resistor, 2-Leads, Body 2.05x1.25mm, IPC Medium Density)
simulation model Resistor
pins: 1, 2
1 alternate drawing of the same symbol

## Resistor 2K49 0603
designator R?, comment 2.49K
Resistor 2.49K 0603 0.1W 0.1%; Revision: Altium ETH 11-03.2008; Value: 2.49K; Supplier 1: Digi-Key; Supplier Part Number 1: P2.49KDBCT-ND; Supplier 2: Digi-Key; Supplier Part Number 2: YAG1618CT-ND
footprint 0603 RES (Chip Resistor, 2-Leads, Body 1.60x0.85mm, IPC Medium Density)
simulation model Resistor
pins: 1, 2
1 alternate drawing of the same symbol

## Resistor 2K55 0603
designator R?, comment 2.55K
Resistor 2.55K 0603 0.1W 0.1%; Revision: Altium ETH 11-03.2008; Value: 2.55K; Supplier 1: Digi-Key; Supplier Part Number 1: P2.55KDBCT-ND; Supplier 2: Digi-Key; Supplier Part Number 2: YAG1620CT-ND
footprint 0603 RES (Chip Resistor, 2-Leads, Body 1.60x0.85mm, IPC Medium Density)
simulation model Resistor
pins: 1, 2
1 alternate drawing of the same symbol

## Resistor 2M49 0603
designator R?, comment 2.49M
Resistor 2.49M 0603 0.1W 0.1%; Revision: Altium ETH 11-03.2008; Value: 2.49M; Supplier 1: Digi-Key; Supplier 2: Digi-Key; Supplier Part Number 1: 541-2.49MCCT-ND; Supplier Part Number 2: 541-2.49MHCT-ND
footprint 0603 RES (Chip Resistor, 2-Leads, Body 1.60x0.85mm, IPC Medium Density)
simulation model Resistor
pins: 1, 2
1 alternate drawing of the same symbol

## Resistor 2M 0805
designator R?, comment 2M
Resistor 2M 0805 0.125W 1%; Revision: Altium ETH 11-03.2008; Value: 2M; Supplier 1: Digi-Key; Supplier 2: Digi-Key; Supplier Part Number 2: P2.00MCCT-ND; Supplier Part Number 1: 541-4129-1-ND
footprint 0805 RES (Chip Resistor, 2-Leads, Body 2.05x1.25mm, IPC Medium Density)
simulation model Resistor
pins: 1, 2
1 alternate drawing of the same symbol

## Resistor 2R2 0201
designator R?, comment 2.2R
Resistor 2.2R 0201 0.05W 5%; Revision: Altium ETH 11-03.2008; Value: 2.2R; Supplier 1: Digi-Key; Supplier 2: Digi-Key; Supplier Part Number 1: YAG2886CT-ND; Supplier Part Number 2: P123294CT-ND
footprint 0201 RES (Chip Resistor, 2-Leads, Body 0.60x0.30mm, IPC Medium Density)
simulation model Resistor
pins: 1, 2
1 alternate drawing of the same symbol

## Resistor 2R4 0402
designator R?, comment 2R2
Resistor 2R4 0402 0.2W 1%; Mass_g: 0.00065; Revision: Altium ETH 11-03.2008; Value: 2R2; Supplier 1: Digi-Key; Supplier Part Number 1: 541-2.40YCT-ND; Supplier 2: Mouser; Supplier Part Number 2: 71-CRCW04022R40FKEDH
footprint 0402 RES (Chip Capacitor, 2-Leads, Body 1.00x0.50mm, IPC Medium Density)
simulation model Resistor
pins: 1, 2
1 alternate drawing of the same symbol

## Resistor 2R 0805
designator R?, comment 2R
Resistor 2R 0805 0.125W 1%; Revision: Altium ETH 11-03.2008; Value: 2R; Supplier 1: Digi-Key; Supplier Part Number 1: 311-2.00CRCT-ND; Supplier 2: Digi-Key; Supplier Part Number 2: P19275CT-ND
footprint 0805 RES (Chip Resistor, 2-Leads, Body 2.05x1.25mm, IPC Medium Density)
simulation model Resistor
pins: 1, 2
1 alternate drawing of the same symbol

## Resistor 3K3 0402
designator R?, comment 5.6K
Resistor 3.3K 0402 0.063W 1%; Revision: Altium ETH 11-03.2008; Value: 5.6K; Supplier 1: Digi-Key; Supplier 2: Digi-Key; Supplier Part Number 1: P3.30KLCT-ND; Supplier Part Number 2: 311-3.30KLRCT-ND
footprint 0402 RES (Chip Capacitor, 2-Leads, Body 1.00x0.50mm, IPC Medium Density)
simulation model Resistor
pins: 1, 2
1 alternate drawing of the same symbol

## Resistor 3K16 0805
designator R?, comment 3.16K
Resistor 3.16K 0805 0.1W 0.1%; Revision: Altium ETH 11-03.2008; Value: 3.16K; Supplier 1: Digi-Key; Supplier 2: Digi-Key; Supplier Part Number 1: P3.16KDACT-ND; Supplier Part Number 2: YAG4890CT-ND
footprint 0805 RES (Chip Resistor, 2-Leads, Body 2.05x1.25mm, IPC Medium Density)
simulation model Resistor
pins: 1, 2
1 alternate drawing of the same symbol

## Resistor 3K24 0603
designator R?, comment 3.24K
Resistor 3.24K 0603 0.1W 1%; Revision: Altium ETH 11-03.2008; Value: 3.24K; Supplier 1: Digi-Key; Supplier Part Number 1: P3.24KHCT-ND; Supplier 2: Digi-Key; Supplier Part Number 2: 541-3.24KHCT-ND
footprint 0603 RES (Chip Resistor, 2-Leads, Body 1.60x0.85mm, IPC Medium Density)
simulation model Resistor
pins: 1, 2
1 alternate drawing of the same symbol

## Resistor 3K57 0603
designator R?, comment 3K57
Resistor 3K57 0603 0.1W 1%; Mass_g: 0.002; Revision: Altium ETH 11-03.2008; Value: 3K57; Supplier 1: Mouser; Supplier 2: Digi-Key; Supplier Part Number 2: P3.57KDBCT-ND; Supplier Part Number 1: 71-CRCW0603-3.57K-E3
footprint 0603 RES (Chip Resistor, 2-Leads, Body 1.60x0.85mm, IPC Medium Density)
simulation model Resistor
footprint 0603 RES - DNP (Chip Resistor, 2-Leads, Body 1.60x0.85mm, IPC Medium Density)
pins: 1, 2
1 alternate drawing of the same symbol

## Resistor 3K 0402 0.1%
designator R?, comment 3K, 0.1%
Resistor 3K 0402 0.063W 0.1%; Revision: Altium ETH 11-03.2008; Value: 3K; Supplier 1: Digi-Key; Supplier Part Number 1: P3.0KDCCT-ND; Supplier 2: Digi-Key; Supplier Part Number 2: 541-9842-1-ND
footprint 0402 RES (Chip Capacitor, 2-Leads, Body 1.00x0.50mm, IPC Medium Density)
simulation model Resistor
pins: 1, 2
1 alternate drawing of the same symbol

## Resistor 3K 0603
designator R?, comment 3K
Resistor 3K 0603 0.1W 1%; Mass_g: 0.002; Revision: Altium ETH 11-03.2008; Value: 3K; Supplier 1: Digi-Key; Supplier Part Number 1: P3.00KHCT-ND; Supplier 2: Digi-Key; Supplier Part Number 2: 311-3.00KHRCT-ND; Supplier 3: Digi-Key; Supplier Part Number 3: P3KBYCT-ND
footprint 0603 RES (Chip Resistor, 2-Leads, Body 1.60x0.85mm, IPC Medium Density)
simulation model Resistor
pins: 1, 2
1 alternate drawing of the same symbol

## Resistor 3K 0603 0.1%
designator R?, comment 3K  Tolerance: 0.1%
Resistor 3K 0603 0.1W 1%; Mass_g: 0.002; Revision: Altium ETH 11-03.2008; Value: 3K; Supplier 1: Digi-Key; Supplier Part Number 1: RG16P3.0KBCT-ND; Supplier 2: Digi-Key; Supplier Part Number 2: 541-2019-1-ND
footprint 0603 RES (Chip Resistor, 2-Leads, Body 1.60x0.85mm, IPC Medium Density)
simulation model Resistor
pins: 1, 2
1 alternate drawing of the same symbol

## Resistor 3K 0805
designator R?, comment 3K
Resistor 3K 0805 0.125W 1%; Revision: Altium ETH 11-03.2008; Value: 3K; Supplier 1: Digi-Key; Supplier Part Number 1: P3.0KCCT-ND; Supplier 2: Digi-Key; Supplier Part Number 2: 311-3.00KCRCT-ND
footprint 0805 RES (Chip Resistor, 2-Leads, Body 2.05x1.25mm, IPC Medium Density)
simulation model Resistor
pins: 1, 2
1 alternate drawing of the same symbol

## Resistor 3M6 0603
designator R?, comment 3M6
Resistor 3.6M 0603 0.1W 1%; Value: 3.6Meg; Revision: Altium ETH 11-03.2008; Supplier 1: Digi-Key; Supplier Part Number 1: RMCF0603FT3M60CT-ND; Supplier 2: Digi-Key; Supplier Part Number 2: RHM3.6MAYCT-ND
footprint 0603 RES (Chip Resistor, 2-Leads, Body 1.60x0.85mm, IPC Medium Density)
simulation model Resistor
pins: 1, 2
1 alternate drawing of the same symbol

## Resistor 3M 0603
designator R?, comment 3M
Resistor 3M 0603 0.1W 1%; Value: 3Meg; Mass_g: 0.002; Revision: Altium ETH 11-03.2008; Supplier 1: Digi-Key; Supplier Part Number 1: 541-3.00MHCT-ND; Supplier 2: Digi-Key; Supplier Part Number 2: RMCF0603FT3M00CT-ND; Supplier 3: Digi-Key; Supplier Part Number 3: 541-RCS06033M00FKEACT-ND
footprint 0603 RES (Chip Resistor, 2-Leads, Body 1.60x0.85mm, IPC Medium Density)
simulation model Resistor
pins: 1, 2
1 alternate drawing of the same symbol

## Resistor 3R3 2512
designator R?, comment 3.3R  Power: 3W
Resistor 3.3RK 2512 3W 5%; Mass_g: 0.0405; Revision: Altium ETH 11-03.2008; Value: 3.3R; Supplier 1: RSComponents; Supplier Part Number 1: 8711020P; Supplier 2: Digi-Key; Supplier Part Number 2: A121247CT-ND; Supplier 3: Mouser; Supplier Part Number 3: 279-35223R3JT
simulation model Resistor
footprint 2512 RES - TE
pins: 1, 2
1 alternate drawing of the same symbol

## Resistor 3R 0805
designator R?, comment 3R
Resistor 3R 0805 0.125W 0.5%; Revision: Altium ETH 11-03.2008; Value: 3R; Supplier 1: Digi-Key; Supplier 2: Digi-Key; Supplier Part Number 1: YAG5007CT-ND; Supplier Part Number 2: RNCF0805DTE3R00CT-ND
footprint 0805 RES (Chip Resistor, 2-Leads, Body 2.05x1.25mm, IPC Medium Density)
simulation model Resistor
pins: 1, 2
1 alternate drawing of the same symbol

## Resistor 4K7 0603
designator R?, comment 4.7K
Resistor 4.7K 0603 0.1W 1%; Mass_g: 0.002; Revision: Altium ETH 11-03.2008; Value: 4.7K; Supplier 1: Digi-Key; Supplier Part Number 1: P4.70KHCT-ND; Supplier 2: Digi-Key; Supplier Part Number 2: 311-4.70KHRCT-ND
footprint 0603 RES (Chip Resistor, 2-Leads, Body 1.60x0.85mm, IPC Medium Density)
simulation model Resistor
pins: 1, 2
1 alternate drawing of the same symbol

## Resistor 4K7 0805
designator R?, comment 4.7K
Resistor 4.7K 0805 0.125W 1%; Revision: Altium ETH 11-03.2008; Value: 4.7K; Supplier 1: Digi-Key; Supplier Part Number 1: 311-4.70KCRCT-ND; Supplier 2: Digi-Key; Supplier Part Number 2: YAG1325CT-ND; Supplier 3: Digi-Key; Supplier Part Number 3: A129757CT-ND; Supplier 4: Digi-Key; Supplier Part Number 4: 541-CRCW08054K70FKEBCT-ND
footprint 0805 RES (Chip Resistor, 2-Leads, Body 2.05x1.25mm, IPC Medium Density)
simulation model Resistor
pins: 1, 2
1 alternate drawing of the same symbol

## Resistor 4K22 0805
designator R?, comment 4.22K
Resistor 4.22K 0805 0.1W 0.1%; Revision: Altium ETH 11-03.2008; Value: 4.22K; Supplier 1: Digi-Key; Supplier 2: Digi-Key; Supplier Part Number 2: 541-4.22KCCT-ND; Supplier Part Number 1: 311-4.22KCRCT-ND
footprint 0805 RES (Chip Resistor, 2-Leads, Body 2.05x1.25mm, IPC Medium Density)
simulation model Resistor
pins: 1, 2
1 alternate drawing of the same symbol

## Resistor 4K42 0603
designator R?, comment 4.42K
Resistor 4.42K 0603 0.1W 0.1%; Revision: Altium ETH 11-03.2008; Value: 4.42K; Supplier 1: Digi-Key; Supplier Part Number 1: YAG4569CT-ND; Supplier 2: Digi-Key; Supplier Part Number 2: P20045CT-ND
footprint 0603 RES (Chip Resistor, 2-Leads, Body 1.60x0.85mm, IPC Medium Density)
simulation model Resistor
pins: 1, 2
1 alternate drawing of the same symbol

## Resistor 4K42 0805
designator R?, comment 4.42K
Resistor 4.42K 0805 0.1W 0.1%; Revision: Altium ETH 11-03.2008; Value: 4.42K; Supplier 1: Digi-Key; Supplier 2: Digi-Key; Supplier Part Number 1: P4.42KDACT-ND; Supplier Part Number 2: YAG1917CT-ND
footprint 0805 RES (Chip Resistor, 2-Leads, Body 2.05x1.25mm, IPC Medium Density)
simulation model Resistor
pins: 1, 2
1 alternate drawing of the same symbol

## Resistor 4K64 0603
designator R?, comment 4.64K
Resistor 4.64K 0603 0.1W 0.1%; Revision: Altium ETH 11-03.2008; Value: 4.64K; Supplier 1: Digi-Key; Supplier Part Number 1: P4.64KDBCT-ND; Supplier 2: Digi-Key; Supplier Part Number 2: YAG1675CT-ND
footprint 0603 RES (Chip Resistor, 2-Leads, Body 1.60x0.85mm, IPC Medium Density)
simulation model Resistor
pins: 1, 2
1 alternate drawing of the same symbol

## Resistor 4K64 0805
designator R?, comment 4.64K
Resistor 4.64K 0805 0.1W 0.1%; Revision: Altium ETH 11-03.2008; Value: 4.64K; Supplier 1: Digi-Key; Supplier 2: Digi-Key; Supplier Part Number 1: P4.64KCCT-ND; Supplier Part Number 2: 311-4.64KCRCT-ND
footprint 0805 RES (Chip Resistor, 2-Leads, Body 2.05x1.25mm, IPC Medium Density)
simulation model Resistor
pins: 1, 2
1 alternate drawing of the same symbol

## Resistor 4K99 0603
designator R?, comment 4.99K
Resistor 4.99K 0603 0.1W 0.1%; Revision: Altium ETH 11-03.2008; Value: 4.99K; Supplier 1: Digi-Key; Supplier Part Number 1: P4.99KDBCT-ND; Supplier 2: Digi-Key; Supplier Part Number 2: YAG4748CT-ND
footprint 0603 RES (Chip Resistor, 2-Leads, Body 1.60x0.85mm, IPC Medium Density)
simulation model Resistor
pins: 1, 2
1 alternate drawing of the same symbol

## Resistor 4K99 0805
designator R?, comment 4.99K
Resistor 4.99K 0805 0.125W 0.1%; Revision: Altium ETH 11-03.2008; Value: 4.99K; Supplier 1: Digi-Key; Supplier Part Number 1: P4.99KDACT-ND; Supplier 2: Digi-Key; Supplier Part Number 2: YAG4991CT-ND
footprint 0805 RES (Chip Resistor, 2-Leads, Body 2.05x1.25mm, IPC Medium Density)
simulation model Resistor
pins: 1, 2
1 alternate drawing of the same symbol

## Resistor 4K 0805
designator R?, comment 4K
Resistor 4K 0805 0.125W 1%; Revision: Altium ETH 11-03.2008; Value: 4K; Supplier 1: Digi-Key; Supplier 2: Mouser; Supplier Part Number 1: 541-CRCW08054K00FKTACT-ND; Supplier Part Number 2: 71-CRCW0805-4K
simulation model Resistor
footprint 0805 RES (Chip Resistor, 2-Leads, Body 2.05x1.25mm, IPC Medium Density)
pins: 1, 2
1 alternate drawing of the same symbol

## Resistor 4M3 0603
designator R?, comment 4.3M
Resistor 4.3M 0603 0.1W 1%; Revision: Altium ETH 11-03.2008; Value: 4.3M; Supplier 1: Digi-Key; Supplier 2: Digi-Key; Supplier Part Number 1: RMCF0603FT4M30CT-ND; Supplier Part Number 2: 541-4.30MHCT-ND
footprint 0603 RES (Chip Resistor, 2-Leads, Body 1.60x0.85mm, IPC Medium Density)
simulation model Resistor
pins: 1, 2
1 alternate drawing of the same symbol

## Resistor 4M7 0603
designator R?, comment 4.7M
Resistor 4.7M 0603 0.1W 1%; Revision: Altium ETH 11-03.2008; Value: 4.7M; Supplier 1: Digi-Key; Supplier Part Number 1: 541-RCS06034M70FKEACT-ND; Supplier 2: Digi-Key; Supplier Part Number 2: 13-AC0603FR-074M7LCT-ND
footprint 0603 RES (Chip Resistor, 2-Leads, Body 1.60x0.85mm, IPC Medium Density)
simulation model Resistor
pins: 1, 2
1 alternate drawing of the same symbol

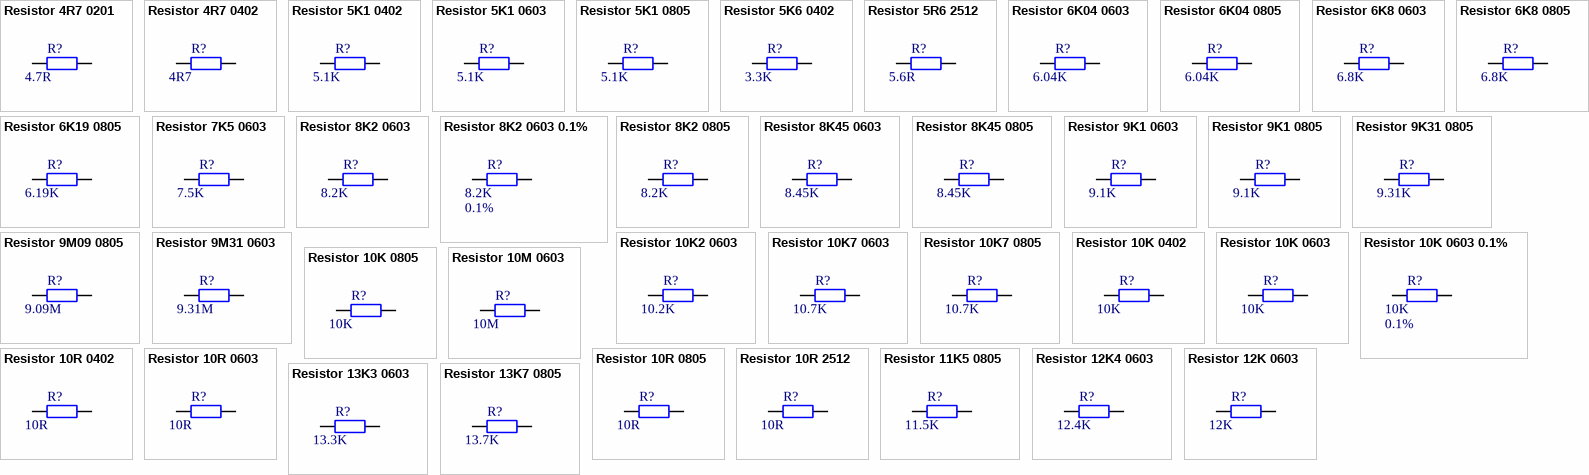
[diagram p3: symbols Resistor 4R7 0201 to Resistor 13K7 0805]

## Resistor 4R7 0201
designator R?, comment 4.7R
Resistor 4.7R 0201 0.05W 5%; Revision: Altium ETH 11-03.2008; Value: 4.7R; Supplier 1: Digi-Key; Supplier 2: Digi-Key; Supplier Part Number 1: P123337CT-ND; Supplier Part Number 2: YAG2906CT-ND
footprint 0201 RES (Chip Resistor, 2-Leads, Body 0.60x0.30mm, IPC Medium Density)
simulation model Resistor
pins: 1, 2
1 alternate drawing of the same symbol

## Resistor 4R7 0402
designator R?, comment 4R7
Resistor 4.7R 0402 0.063W 1%; Revision: Altium ETH 11-03.2008; Value: 4R7; Supplier 1: Mouser; Supplier Part Number 1: 71-CRCW04024R70FKEDH; Supplier 2: Digi-Key; Supplier Part Number 2: 541-4.70YCT-ND; Supplier 3: Digi-Key; Supplier Part Number 3: 541-10415-1-ND
footprint 0402 RES (Chip Capacitor, 2-Leads, Body 1.00x0.50mm, IPC Medium Density)
simulation model Resistor
pins: 1, 2
1 alternate drawing of the same symbol

## Resistor 5K1 0402
designator R?, comment 5.1K
Resistor 5.1K 0402 0.063W 1%; Revision: Altium ETH 11-03.2008; Value: 5.1K; Supplier 1: Digi-Key; Supplier 2: Digi-Key; Supplier Part Number 1: 311-5.10KLRCT-ND; Supplier Part Number 2: P5.10KLCT-ND
footprint 0402 RES (Chip Capacitor, 2-Leads, Body 1.00x0.50mm, IPC Medium Density)
simulation model Resistor
pins: 1, 2
1 alternate drawing of the same symbol

## Resistor 5K1 0603
designator R?, comment 5.1K
Resistor 5.1K 0603 0.1W 1%; Revision: Altium ETH 11-03.2008; Value: 5.1K; Supplier 1: Digi-Key; Supplier Part Number 1: P5.10KHCT-ND; Supplier 2: Digi-Key; Supplier Part Number 2: 311-5.10KHRCT-ND
footprint 0603 RES (Chip Resistor, 2-Leads, Body 1.60x0.85mm, IPC Medium Density)
simulation model Resistor
pins: 1, 2
1 alternate drawing of the same symbol

## Resistor 5K1 0805
designator R?, comment 5.1K
Resistor 5.1K 0805 0.125W 1%; Revision: Altium ETH 11-03.2008; Value: 5.1K; Supplier 1: Digi-Key; Supplier Part Number 1: P5.10KCCT-ND; Supplier 2: Digi-Key; Supplier Part Number 2: 311-5.10KCRCT-ND
footprint 0805 RES (Chip Resistor, 2-Leads, Body 2.05x1.25mm, IPC Medium Density)
simulation model Resistor
pins: 1, 2
1 alternate drawing of the same symbol

## Resistor 5K6 0402
designator R?, comment 3.3K
Resistor 5.6K 0402 0.063W 1%; Revision: Altium ETH 11-03.2008; Value: 3.3K; Supplier 1: Digi-Key; Supplier 2: Digi-Key; Supplier Part Number 1: 311-5.6KLRCT-ND; Supplier Part Number 2: P5.60KLCT-ND
footprint 0402 RES (Chip Capacitor, 2-Leads, Body 1.00x0.50mm, IPC Medium Density)
simulation model Resistor
pins: 1, 2
1 alternate drawing of the same symbol